# EAGLE library part TAS1020B (library X893)
http://focus.ti.com/docs/prod/folders/print/tas1020b.html
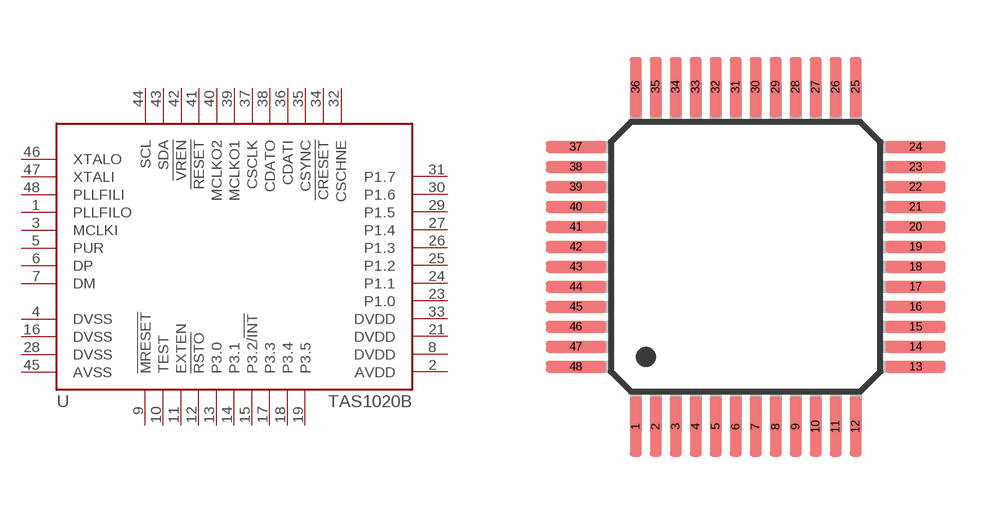
[diagram p101: symbol with the pads of TQFP48; footprint TQFP48]

Designator prefix U

## TAS1020B  [TQFP48]
1  PLLFILO
2  AVDD
3  MCLKI
4  DVSS
5  PUR
6  DP
7  DM
8  DVDD
9  !MRESET
10  TEST
11  EXTEN
12  !RSTO
13  P3.0
14  P3.1
15  P3.2/!INT
16  DVSS
17  P3.3
18  P3.4
19  P3.5
20  NC1  nc
21  DVDD
22  NC2  nc
23  P1.0
24  P1.1
25  P1.2
26  P1.3
27  P1.4
28  DVSS
29  P1.5
30  P1.6
31  P1.7
32  CSCHNE
33  DVDD
34  !CRESET
35  CSYNC
36  CDATI
37  CSCLK
38  CDATO
39  MCLKO1
40  MCLKO2
41  !RESET
42  !VREN
43  SDA
44  SCL
45  AVSS
46  XTALO
47  XTALI
48  PLLFILI

## Footprint TQFP48 (pad centres in mm)
Thin Quad Flat Pack
smd 0.3 x 1.5: 1 -2.75,-4.25; 2 -2.25,-4.25; 3 -1.75,-4.25; 4 -1.25,-4.25; 5 -0.75,-4.25; 6 -0.25,-4.25; 7 0.25,-4.25; 8 0.75,-4.25; 9 1.25,-4.25; 10 1.75,-4.25; 11 2.25,-4.25; 12 2.75,-4.25; 25 2.75,4.25; 26 2.25,4.25; 27 1.75,4.25; 28 1.25,4.25; 29 0.75,4.25; 30 0.25,4.25; 31 -0.25,4.25; 32 -0.75,4.25; 33 -1.25,4.25; 34 -1.75,4.25; 35 -2.25,4.25; 36 -2.75,4.25
smd 1.5 x 0.3: 13 4.25,-2.75; 14 4.25,-2.25; 15 4.25,-1.75; 16 4.25,-1.25; 17 4.25,-0.75; 18 4.25,-0.25; 19 4.25,0.25; 20 4.25,0.75; 21 4.25,1.25; 22 4.25,1.75; 23 4.25,2.25; 24 4.25,2.75; 37 -4.25,2.75; 38 -4.25,2.25; 39 -4.25,1.75; 40 -4.25,1.25; 41 -4.25,0.75; 42 -4.25,0.25; 43 -4.25,-0.25; 44 -4.25,-0.75; 45 -4.25,-1.25; 46 -4.25,-1.75; 47 -4.25,-2.25; 48 -4.25,-2.75